# Altium schematic symbol library 2267062-2.SchLib: 1 symbol
Pins are listed as number, name and electrical type; pins without a type are passive.

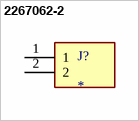
[diagram p0: symbol 2267062-2]

## 2267062-2
designator J?
MF: {'manufacturer': u'TE Connectivity'}; MP: 2267062-2; Price: None; Package: None; Availability: Unavailable; Value: *
footprint TE_2267062-2
pins: 1, 2